# Altium footprint library TI Power Management Lighting and Display.PcbLib: 148 footprints (part 10 of 10)
Each footprint in its own frame and in the unit in brackets; x right, y up, seen from the top. Pads: shape width x height; smd on the part's side, far side on the other; paste and mask are expansions set on the pad; w line width, h text height; cw(c..) or ccw(c..) is an arc to the next point about the centre after c.
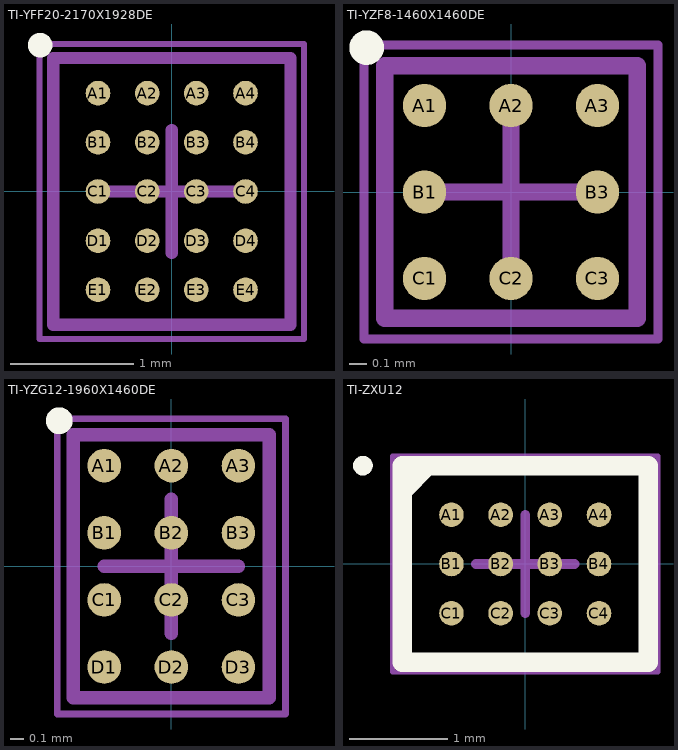
[diagram p9: the footprints below, top view; thin cyan lines are the x and y axes]

## TI-YFF20-2170X1928DE [mm] "BGA, 20-Balls, Body 2.17x1.928mm, Pitch 0.4mm"
height 0.63
pads (20):
  round 0.2 smd: A1(-0.6,0.8) A2(-0.2,0.8) A3(0.2,0.8) A4(0.6,0.8) B1(-0.6,0.4) B2(-0.2,0.4) B3(0.2,0.4) B4(0.6,0.4) C1(-0.6,0) C2(-0.2,0) C3(0.2,0) C4(0.6,0) D1(-0.6,-0.4) D2(-0.2,-0.4) D3(0.2,-0.4) D4(0.6,-0.4) E1(-0.6,-0.8) E2(-0.2,-0.8) E3(0.2,-0.8) E4(0.6,-0.8)
Top Overlay:
  circle w0.1: c-1.07,1.19 r0.05
Mechanical 13:
  lines w0.1: -0.965,-1.085 -0.965,1.085 0.965,1.085 0.965,-1.085 -0.965,-1.085
Mechanical 15:
  lines w0.05: -1.075,-1.2 -1.075,1.2 1.075,1.2 1.075,-1.2 -1.075,-1.2
  lines w0.1: -0.5,0 0.5,0 ; 0,-0.5 0,0.5
3D body: height 0.63, standoff 0.12, extent -0.965,-1.085 0.965,1.085

## TI-YZF8-1460X1460DE [mm] "BGA, 8-Balls, Body 1.46x1.46mm, Pitch 0.5mm"
height 0.63
pads (8):
  round 0.25 smd: A1(-0.5,0.5) A2(0,0.5) A3(0.5,0.5) B1(-0.5,0) B3(0.5,0) C1(-0.5,-0.5) C2(0,-0.5) C3(0.5,-0.5)
Top Overlay:
  circle w0.1: c-0.835,0.835 r0.05
Mechanical 13:
  lines w0.1: -0.73,-0.73 -0.73,0.73 0.73,0.73 0.73,-0.73 -0.73,-0.73
Mechanical 15:
  lines w0.05: -0.85,-0.85 -0.85,0.85 0.85,0.85 0.85,-0.85 -0.85,-0.85
  lines w0.1: -0.5,0 0.5,0 ; 0,-0.5 0,0.5
3D body: height 0.63, standoff 0.15, extent -0.73,-0.73 0.73,0.73

## TI-YZG12-1960X1460DE [mm] "BGA, 12-Balls, Body 1.96x1.46mm, Pitch 0.5mm"
height 0.63
pads (12):
  round 0.25 smd: A1(-0.5,0.75) A2(0,0.75) A3(0.5,0.75) B1(-0.5,0.25) B2(0,0.25) B3(0.5,0.25) C1(-0.5,-0.25) C2(0,-0.25) C3(0.5,-0.25) D1(-0.5,-0.75) D2(0,-0.75) D3(0.5,-0.75)
Top Overlay:
  circle w0.1: c-0.835,1.085 r0.05
Mechanical 13:
  lines w0.1: -0.73,-0.98 -0.73,0.98 0.73,0.98 0.73,-0.98 -0.73,-0.98
Mechanical 15:
  lines w0.05: -0.85,-1.1 -0.85,1.1 0.85,1.1 0.85,-1.1 -0.85,-1.1
  lines w0.1: -0.5,0 0.5,0 ; 0,-0.5 0,0.5
3D body: height 0.63, standoff 0.15, extent -0.73,-0.98 0.73,0.98

## TI-ZXU12 [mm] "BGA, 12-Balls, Body 2.5x2mm, Pitch 0.5mm"
height 0.61
pads (12):
  round 0.25 smd: A1(-0.75,0.5) A2(-0.25,0.5) A3(0.25,0.5) A4(0.75,0.5) B1(-0.75,0) B2(-0.25,0) B3(0.25,0) B4(0.75,0) C1(-0.75,-0.5) C2(-0.25,-0.5) C3(0.25,-0.5) C4(0.75,-0.5)
Top Overlay:
  circle w0.1: c-1.65,1 r0.05
  region: -0.992,1 -1.25,0.742 -1.25,1
  lines w0.2: -1.25,0.742 -0.992,1 ; -1.25,-1 -1.25,1 1.25,1 1.25,-1 -1.25,-1
Mechanical 13:
  lines w0.1: -1.25,-1 -1.25,1 1.25,1 1.25,-1 -1.25,-1
Mechanical 15:
  lines w0.05: -1.35,-1.1 -1.35,1.1 1.35,1.1 1.35,-1.1 -1.35,-1.1
  lines w0.1: -0.5,0 0.5,0 ; 0,-0.5 0,0.5
3D body: height 0.61, standoff 0.15, extent -1.25,-1 1.25,1